# Altium footprint library SparkFun-Connectors.PCBLIB: 379 footprints (part 23 of 24)
Each footprint in its own frame and in the unit in brackets; x right, y up, seen from the top. Pads: shape width x height; smd on the part's side, far side on the other; paste and mask are expansions set on the pad; w line width, h text height; cw(c..) or ccw(c..) is an arc to the next point about the centre after c.
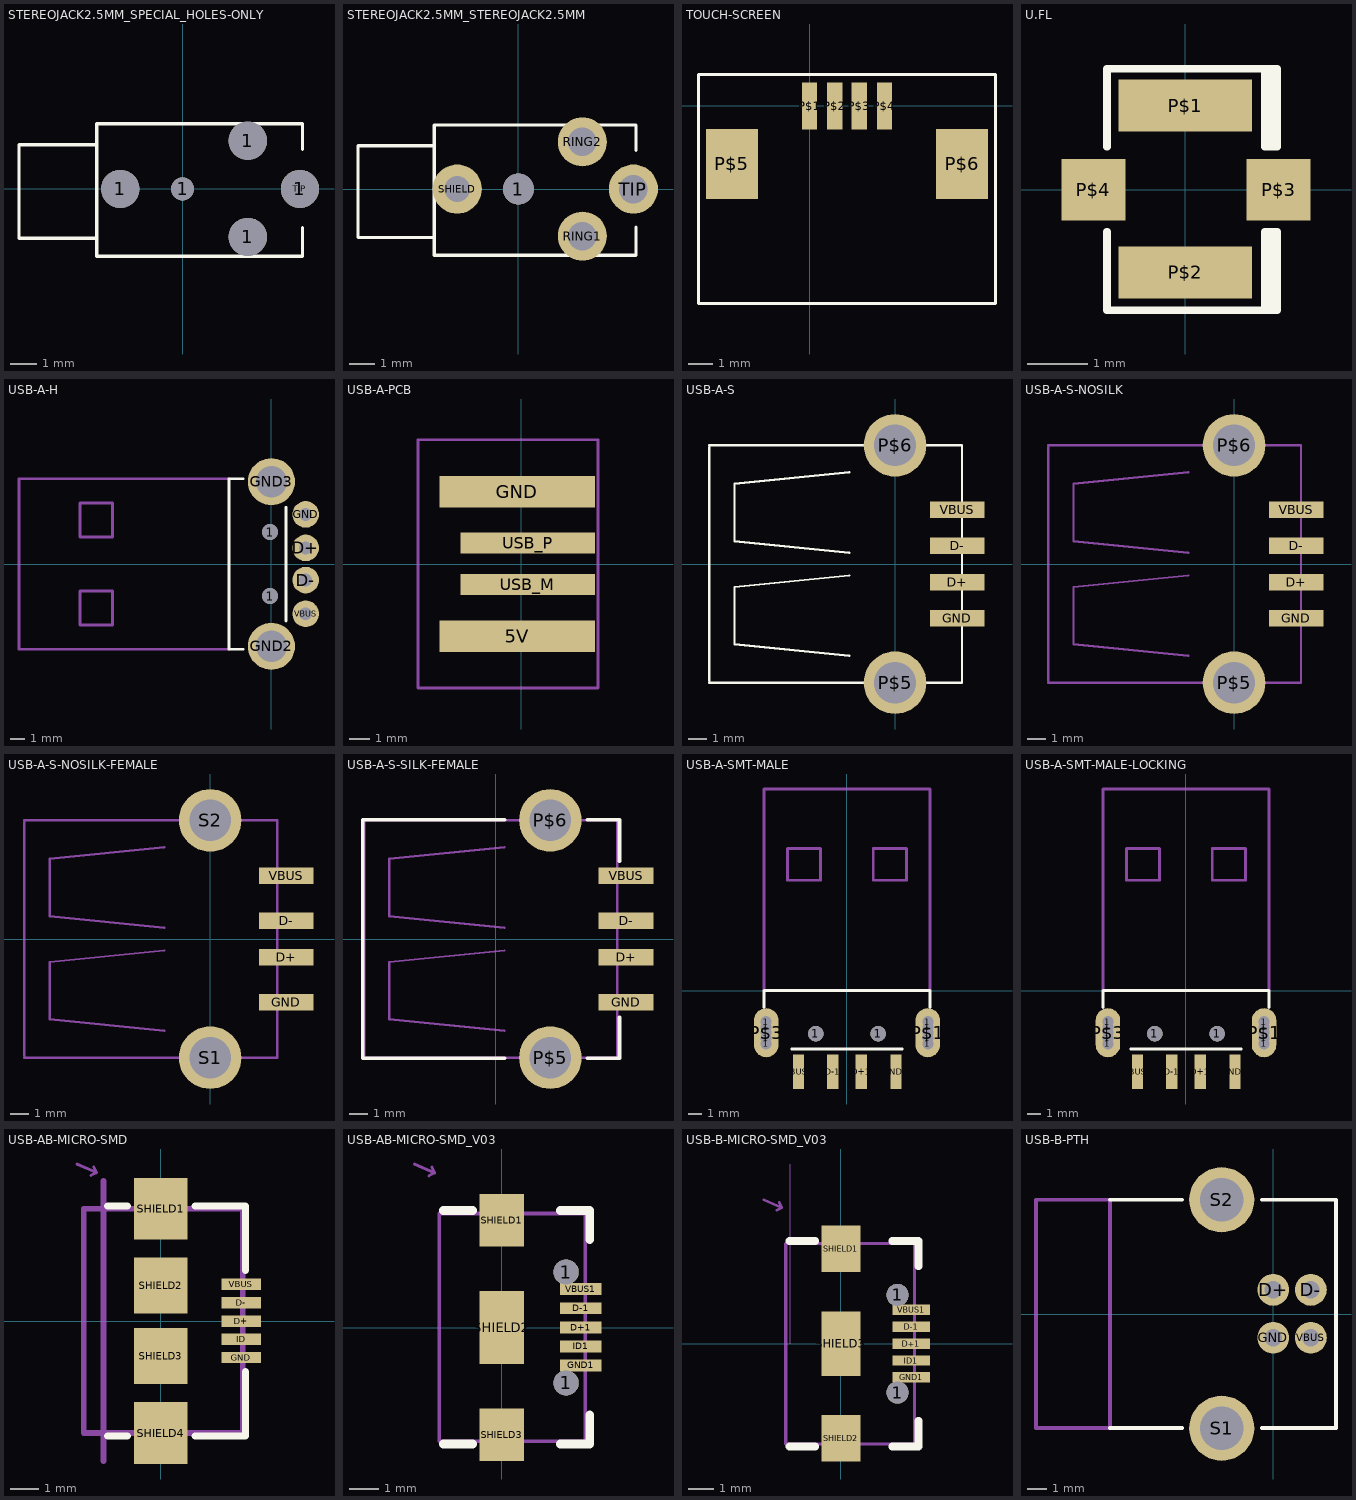
[diagram p22: the footprints below, top view; thin cyan lines are the x and y axes]

## STEREOJACK2.5MM_SPECIAL_HOLES-ONLY [mil]
pads (9):
  round 58 hole 58: 1(-94.49,0) 1(99,-72.83) 1(99,73) 1(178,0)
  round 35 hole 35: 1(0,0)
  round 32 hole 35: RING1(99,-72.83) RING2(99,73) SHIELD(-94.49,0) TIP(178,0)
Top Overlay:
  lines w5: 182,-59.06 182,-102.36 -129.92,-102.36 -129.92,-74.8 ; 182,60 182,99 -129.92,99 -129.92,67 ; -129.92,-74.8 -129.92,67 ; -129.92,-74.8 -248.03,-74.8 -248.03,67 -129.92,67

## STEREOJACK2.5MM_STEREOJACK2.5MM [mil]
pads (5):
  round 48 hole 48: 1(0,0)
  round 76 hole 44: RING1(99,-72.83) RING2(99,73) TIP(178,0)
  round 76 hole 40: SHIELD(-94.49,0)
Top Overlay:
  lines w5: 174,99 166,99 ; 182,-59.06 182,-102.36 -129.92,-102.36 -129.92,-74.8 ; 182,60 182,99 166,99 ; -129.92,-74.8 -129.92,67 ; -129.92,-74.8 -248.03,-74.8 -248.03,67 -129.92,67 ; -129.92,67 -129.92,99 166,99

## TOUCH-SCREEN [mil]
pads (6):
  rect 24x75 smd: P$1(0,0) P$2(40,0) P$3(79,0) P$4(119,0)
  rect 83x111 smd: P$5(-124.02,-92.52) P$6(243,-92.52)
Top Overlay:
  lines w5: -177.17,-314.96 296,-314.96 296,50 -177.17,50 -177.17,-314.96

## U.FL [mil]
pads (4):
  rect 87x34 smd: P$1(0,55) P$2(0,-54.13)
  rect 42x40 smd: P$3(61,0) P$4(-60.04,0)
Top Overlay:
  lines w5: -51.18,-27.56 -51.18,-78.74 52,-78.74 ; -51.18,28 -51.18,79 52,79 ; 56,-78.74 56,-27.56 ; 56,28 56,79 ; 52,-78.74 52,-27.56 60,-27.56 60,-78.74 52,-78.74 ; 52,79 52,28 60,28 60,79 52,79

## USB-A-H [mil]
pads (8):
  round 44 hole 44: 1(-3.94,-88.58) 1(-3.94,89)
  round 74 hole 36: D+(95,45) D-(95,-44.37) GND(95,138) VBUS(95,-137.8)
  round 130.5 hole 87: GND2(0,-228.35) GND3(0,229)
Top Overlay:
  lines w8: -78.74,-236.22 -118.11,-236.22 -118.11,237 -78.74,237 ; 40,-157.48 40,158
Mechanical 2:
  text ">NAME" at 231,-106.3 h77.5
Mechanical 16:
  lines w8: -118.11,-236.22 -700.79,-236.22 -700.79,237 -118.11,237 ; -531.5,-169.29 -531.5,-74.8 -440.94,-74.8 -440.94,-169.29 -531.5,-169.29 ; -531.5,75 -531.5,170 -440.94,170 -440.94,75 -531.5,75
  text "PCB Edge" at -153.54,-173.23 h77.5

## USB-A-PCB [mil]
pads (4):
  rect 296x60 smd: 5V(-7.87,-137.8) GND(-7.87,138)
  rect 256x40 smd: USB_M(12,-39.37) USB_P(12,40)
Mechanical 2:
  text ">Name" at -50,200 h24.8
Mechanical 4:
  text ">Value" at -50,-200 h24.8
Mechanical 13:
  text "Card edge" at -250,-150 h62
Mechanical 16:
  lines w5: -196.85,-236.22 146,-236.22 146,237 -196.85,237 -196.85,-236.22

## USB-A-S [mil]
pads (6):
  rect 119x36 smd: D+(136,-39.37) D-(136,40) GND(136,-118.11) VBUS(136,119)
  round 136.5 hole 91: P$5(0,-258.5) P$6(0,259)
Top Overlay:
  lines w5: -405,-258.5 146,-258.5 ; -405,-255 -405,255 ; -405,259 146,259 ; -100,-200 -350,-175 -350,-50 -100,-25 ; -100,25 -350,50 -350,175 -100,200 ; 146,-256 146,256
Mechanical 2:
  text ">NAME" at 225,150 h77.5

## USB-A-S-NOSILK [mil]
pads (6):
  rect 119x36 smd: D+(136,-39.37) D-(136,40) GND(136,-118.11) VBUS(136,119)
  round 136.5 hole 91: P$5(0,-258.5) P$6(0,259)
Mechanical 16:
  lines w5: -405,-258.5 146,-258.5 ; -405,-255 -405,255 ; -405,259 146,259 ; -100,-200 -350,-175 -350,-50 -100,-25 ; -100,25 -350,50 -350,175 -100,200 ; 146,-256 146,256
  text ">NAME" at 225,150 h77.5

## USB-A-S-NOSILK-FEMALE [mil]
pads (6):
  rect 119x36 smd: D+(166,-39.37) D-(166,40) GND(166,-137.8) VBUS(166,138)
  round 136.5 hole 91: S1(0,-258.5) S2(0,259)
Mechanical 16:
  lines w5: -405,-258.5 146,-258.5 ; -405,-255 -405,255 ; -405,259 146,259 ; -100,-200 -350,-175 -350,-50 -100,-25 ; -100,25 -350,50 -350,175 -100,200 ; 146,-256 146,256
  text ">NAME" at 334,-283.66 h77.5

## USB-A-S-SILK-FEMALE [mil]
pads (6):
  rect 119x36 smd: D+(284,-39.37) D-(284,40) GND(284,-137.8) VBUS(284,138)
  round 136.5 hole 91: P$5(119,-258.5) P$6(119,259)
Top Overlay:
  lines w8: 20,-260 -290,-260 -290,260 20,260 ; 200,-260 270,-260 270,-170 ; 200,260 270,260 270,170
Mechanical 2:
  text ">NAME" at -150,100 h24.8
Mechanical 4:
  text ">VALUE" at -150,-150 h24.8
Mechanical 16:
  lines w5: -286.89,-258.5 264,-258.5 ; -286.89,-255 -286.89,255 ; -286.89,259 264,259 ; 19,-200 -231.89,-175 -231.89,-50 19,-25 ; 19,25 -231.89,50 -231.89,175 19,200 ; 265,-256 265,256

## USB-A-SMT-MALE [mil]
pads (16):
  round 32 hole 32: 1(-230.31,-151.57) 1(-230.31,-135.83) 1(-230.31,-104.33) 1(-230.31,-88.58) 1(231,-151.57) 1(231,-135.83) 1(231,-104.33) 1(231,-88.58)
  round 44 hole 44: 1(-88.58,-122.83) 1(89,-122.83)
  rect 32x99 smd: D+1(41,-231.1) D-1(-40.43,-231.1) GND1(140,-231.1) VBUS1(-137.8,-231.1)
  oval 70x140 hole 32: P$1(231,-120.08) P$3(-230.31,-120.08)
Top Overlay:
  lines w8: -236.22,-48.03 -236.22,0 237,0 237,-48.03 ; -157.48,-166.14 158,-166.14
Mechanical 2:
  text ">NAME" at -106.3,-357.09 h77.5
Mechanical 16:
  lines w8: -236.22,0 -236.22,575 237,575 237,0 ; -169.29,315 -169.29,405 -74.8,405 -74.8,315 -169.29,315 ; 75,315 75,405 170,405 170,315 75,315
  text "PCB Edge" at -173.23,27 h77.5

## USB-A-SMT-MALE-LOCKING [mil]
pads (16):
  round 32 hole 32: 1(-222.31,-151.57) 1(-222.31,-135.83) 1(-222.31,-104.33) 1(-222.31,-88.58) 1(223,-151.57) 1(223,-135.83) 1(223,-104.33) 1(223,-88.58)
  round 44 hole 44: 1(-88.58,-122.83) 1(89,-122.83)
  rect 32x99 smd: D+1(41,-231.1) D-1(-40.43,-231.1) GND1(140,-231.1) VBUS1(-137.8,-231.1)
  oval 70x140 hole 32: P$1(223,-120.08) P$3(-222.31,-120.08)
Top Overlay:
  lines w8: -236.22,-48.03 -236.22,0 237,0 237,-48.03 ; -157.48,-166.14 158,-166.14
Mechanical 2:
  text ">NAME" at -106.3,-357.09 h77.5
Mechanical 16:
  rectangle: -236,-160 -223,-80
  region: 236,-80 223,-80 223,-160 236,-160
  lines w0: -243.5,-160 -243.5,-80 ; -236,-160 -236,-82 ; -223,-160 -223,-82 ; 244,-160 244,-80
  lines w8: -236.22,0 -236.22,575 237,575 237,0 ; -169.29,315 -169.29,405 -74.8,405 -74.8,315 -169.29,315 ; 75,315 75,405 170,405 170,315 75,315
  text "PCB Edge" at -173.23,27 h77.5

## USB-AB-MICRO-SMD [mil]
pads (9):
  rect 56x16 smd: D+(113,0) D-(113,26) GND(113,-51.18) ID(113,-25.59) VBUS(113,52)
  rect 75x87 smd: SHIELD1(0,158) SHIELD4(0,-157.48)
  rect 75x79 smd: SHIELD2(0,50) SHIELD3(0,-49.21)
Top Overlay:
  lines w10: -74.8,-161.42 -47.24,-161.42 ; -74.8,162 -47.24,162 ; 48,-161.42 119,-161.42 119,-70.87 ; 48,162 119,162 119,71
Mechanical 2:
  text ">NAME" at -50,235 h24.8
Mechanical 4:
  text ">VALUE" at -50,215 h24.8
Mechanical 16:
  lines w4: -118.11,221 -90.55,209 ; -98.43,205 -90.55,209 ; -94.49,217 -90.55,209
  lines w8: -108.27,-157.48 -108.27,158 ; -106.3,-157.48 115,-157.48 115,158 24,158 ; -106.3,158 -23.62,158 ; -80.71,-196.85 -80.71,197 ; -23.62,-157.48 -23.62,-181.1 24,-181.1 24,-157.48 ; -23.62,158 24,158 ; -23.62,158 -23.62,182 24,182 24,158
  text "PCB Front" at -204.72,217 h18.6

## USB-AB-MICRO-SMD_V03 [mil]
pads (10):
  round 34 hole 34: 1(87,-74.8) 1(87,75)
  rect 56x16 smd: D+1(107,0) D-1(107,26) GND1(107,-51.18) ID1(107,-25.59) VBUS1(107,52)
  rect 60x71 smd: SHIELD1(0,145) SHIELD3(0,-144.88)
  rect 60x99 smd: SHIELD2(0,0)
Top Overlay:
  lines w12: -78.74,-157.48 -39.37,-157.48 ; -78.74,158 -39.37,158 ; 79,-157.48 119,-157.48 119,-118.11 ; 118,158 79,158 ; 119,119 119,158 ; 79,158 79,158
Top Paste:
  rectangle: -29.53,110 30,181
  rectangle: -13.78,-29.53 14,30
  rectangle: -29.53,-180.47 30,-109.61
Top Solder:
  rectangle: -33.46,106 34,185
  rectangle: -33.46,-184.41 34,-105.67
  rectangle: -33.46,-53.15 34,54
Mechanical 2:
  text ">NAME" at -50,235 h24.8
Mechanical 4:
  text ">VALUE" at -50,215 h24.8
Mechanical 14:
  lines w5: -84.65,-153.54 -84.65,154 113,154 113,-153.54 -84.65,-153.54
Mechanical 16:
  lines w4: -118.11,221 -90.55,209 ; -98.43,205 -90.55,209 ; -94.49,217 -90.55,209
  text "PCB Front" at -183.46,235 h18.6

## USB-B-MICRO-SMD_V03 [mil]
pads (10):
  round 34 hole 34: 1(87,-74.8) 1(87,75)
  rect 58x16 smd: D+1(108,0) D-1(108,26) GND1(108,-51.18) ID1(108,-25.59) VBUS1(108,52)
  rect 60x71 smd: SHIELD1(0,146) SHIELD2(0,-145.08)
  rect 60x99 smd: SHIELD3(0,0)
Top Overlay:
  lines w12: -78.74,-157.48 -39.37,-157.48 ; -78.74,158 -39.37,158 ; 79,-157.48 119,-157.48 119,-118.11 ; 118,158 79,158 ; 119,119 119,158 ; 79,158 79,158
Top Paste:
  rectangle: -29.53,110 30,181
  rectangle: -13.78,-29.53 14,30
  rectangle: -29.53,-180.47 30,-109.61
Top Solder:
  rectangle: -33.46,106 34,185
  rectangle: -33.46,-184.41 34,-105.67
  rectangle: -33.46,-53.15 34,54
Mechanical 2:
  text ">NAME" at -50,235 h24.8
Mechanical 4:
  text ">VALUE" at -50,215 h24.8
Mechanical 14:
  lines w5: -84.65,-153.54 -84.65,154 113,154 113,-153.54 -84.65,-153.54
Mechanical 16:
  lines w0: -78.74,0 -78.74,276
  lines w4: -118.11,221 -90.55,209 ; -98.43,205 -90.55,209 ; -94.49,217 -90.55,209
  text "PCB Front" at -183.46,235 h18.6

## USB-B-PTH [mil]
pads (6):
  round 66 hole 36: D+(0,50) D-(78,50) GND(0,-49.21) VBUS(78,-49.21)
  round 135 hole 90: S1(-107,-237) S2(-107,237)
Top Overlay:
  lines w8: -338.58,-236.22 -188.98,-236.22 ; -338.58,237 -188.98,237 ; -23.62,-236.22 130,-236.22 130,237 -23.62,237
Mechanical 2:
  text ">NAME" at -50,150 h24.8
Mechanical 4:
  text ">VALUE" at -50,100 h24.8
Mechanical 16:
  lines w8: -492.13,-236.22 -338.58,-236.22 -338.58,237 -492.13,237 -492.13,-236.22